# EAGLE library part SUP_MAX1595 (library isysbus_ics)
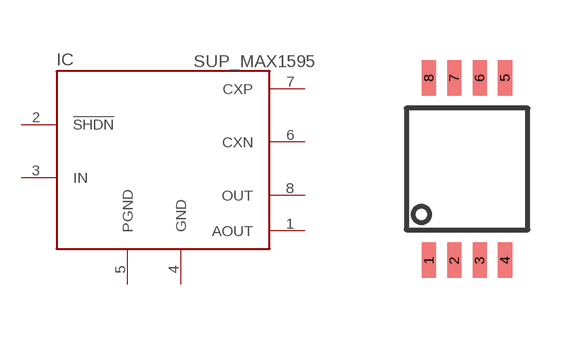
[diagram p24: symbol with the pads of UMAX8; footprint UMAX8]

Designator prefix IC

## SUP_MAX1595  [UMAX8]
1  AOUT  pwr
2  !SHDN  in
3  IN  pwr
4  GND  pwr
5  PGND  pwr
6  CXN  pwr
7  CXP  pwr
8  OUT  pwr

## Footprint UMAX8 (pad centres in mm)
smd 0.356 x 0.889: 1 -0.953,-2.286; 2 -0.318,-2.286; 3 0.318,-2.286; 4 0.953,-2.286; 5 0.953,2.286; 6 0.318,2.286; 7 -0.318,2.286; 8 -0.953,2.286